# Altium footprint library Debug.PcbLib: 17 footprints (part 1 of 2)
Each footprint in its own frame and in the unit in brackets; x right, y up, seen from the top. Pads: shape width x height; smd on the part's side, far side on the other; paste and mask are expansions set on the pad; w line width, h text height; cw(c..) or ccw(c..) is an arc to the next point about the centre after c.
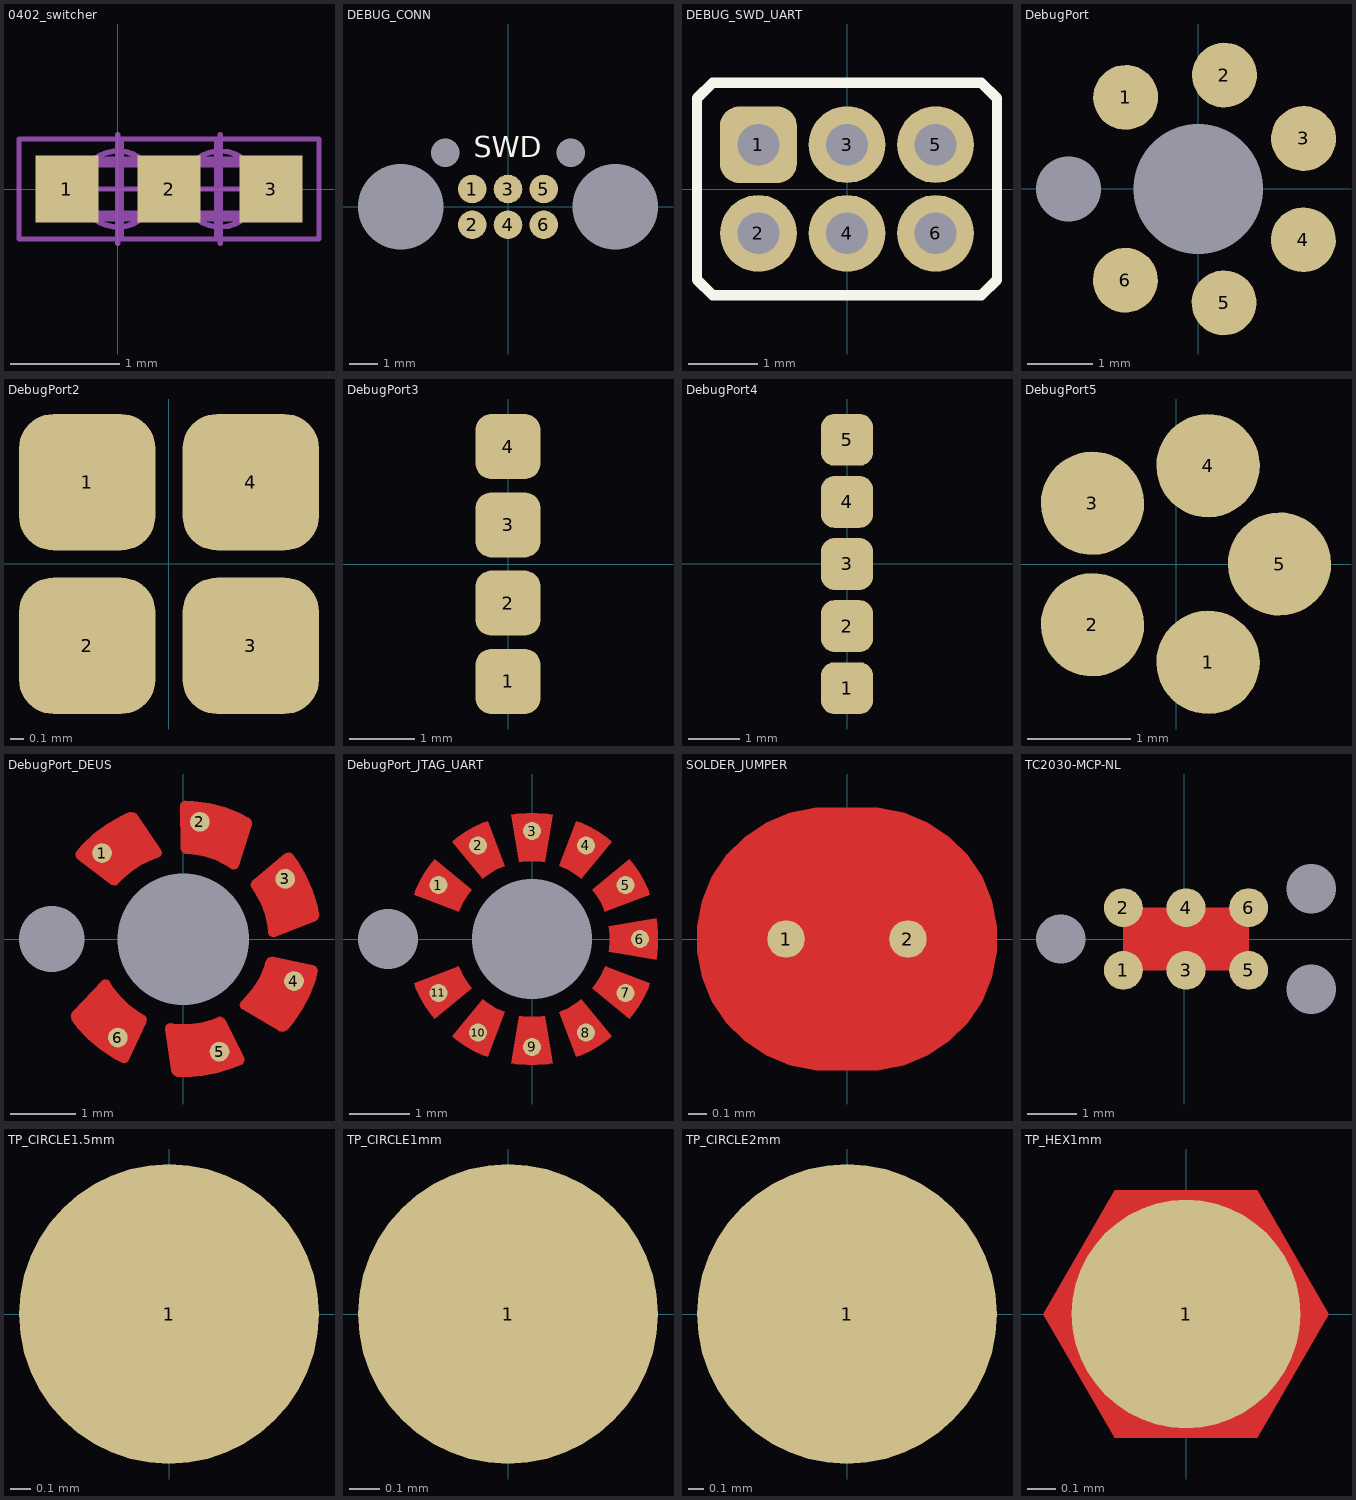
[diagram p0: the footprints below, top view; thin cyan lines are the x and y axes]

## 0402_switcher [mm] "Chip Resistor, EIA 0402, Metric 1005, Body 1.0x0.5mm, IPC Medium Density"
height 0.4
pads (3):
  rect 0.58x0.62 smd: 1(-0.47,0) 2(0.47,0) 3(1.41,0)
Mechanical 14:
  lines w0.1: -0.5,-0.25 0.5,-0.25 0.5,0.25 -0.5,0.25 -0.5,-0.25 ; 0.44,-0.25 0.44,0.25 1.44,0.25 1.44,-0.25 0.44,-0.25
Mechanical 15:
  circle w0.05: c0,0 r0.35
  circle w0.05: c0.94,0 r0.35
  lines w0.05: -0.5,0 0.5,0 ; 0,-0.5 0,0.5 ; 0.44,0 1.44,0 ; 0.94,-0.5 0.94,0.5 ; -0.91,-0.46 0.91,-0.46 0.91,0.46 -0.91,0.46 -0.91,-0.46 ; 0.03,-0.46 0.03,0.46 1.85,0.46 1.85,-0.46 0.03,-0.46
3D body "RESC1005X40N.stp": height 0.4, standoff 0, extent -0.525,-0.275 0.525,0.275

## DEBUG_CONN [mm] "Debug port with SWD and UART"
pads (10):
  round 1 smd: 1(-1.25,0.625) 2(-1.25,-0.625) 3(0,0.625) 4(0,-0.625) 5(1.25,0.625) 6(1.25,-0.625)
  round 0 hole 3: MH(-3.75,0) MH(3.75,0)
  round 0 hole 1: MH(-2.2,1.9) MH(2.2,1.9)
Top Overlay:
  text "SWD" at -1.2,1.5 h1.25

## DEBUG_SWD_UART [mm]
pads (6):
  rrect50% 1.1x1.1 hole 0.6: 1(-1.27,0.635)
  round 1.1 hole 0.6: 2(-1.27,-0.635) 3(0,0.635) 4(0,-0.635) 5(1.27,0.635) 6(1.27,-0.635)
Top Overlay:
  lines w0.15: -2.15,-1.3 -2.15,1.3 -1.925,1.525 1.925,1.525 2.15,1.3 2.15,-1.3 1.925,-1.525 -1.925,-1.525 -2.15,-1.3
Mechanical 14:
  lines w0.1: -2.15,-1.3 -2.15,1.3 -1.925,1.525 1.925,1.525 2.15,1.3 2.15,-1.3 1.925,-1.525 -1.925,-1.525 -2.15,-1.3
  text ".Designator" at -1.27,0.635 h0.5
  text "DEBUG" at -0.95,-0.825 h0.5

## DebugPort [mm] "Debug port with SWD and UART"
pads (8):
  round 1 smd mask+0.05: 1(-1.118,1.411) 2(0.405,1.754) 3(1.623,0.778) 4(1.621,-0.783) 5(0.399,-1.755) 6(-1.123,-1.407)
  round 0 hole 2: MH1(0,0)
  round 0 hole 1: MH2(-2,0)

## DebugPort2 [mm] "Debug port with SWD and UART"
pads (4):
  rrect50% 1x1 smd mask+0.075: 1(-0.6,0.6) 2(-0.6,-0.6) 3(0.6,-0.6) 4(0.6,0.6)

## DebugPort3 [mm] "Debug port with SWD and UART"
pads (4):
  rrect50% 1x1 smd mask+0.075: 1(0,-1.8) 2(0,-0.6) 3(0,0.6) 4(0,1.8)

## DebugPort4 [mm] "Debug port with SWD and UART"
pads (5):
  rrect50% 1x1 smd mask+0.075: 1(0,-2.4) 2(0,-1.2) 3(0,0) 4(0,1.2) 5(0,2.4)

## DebugPort5 [mm] "Debug port with SWD and UART"
pads (5):
  round 1 smd mask+0.05: 1(0.309,-0.951) 2(-0.809,-0.588) 3(-0.809,0.588) 4(0.309,0.951) 5(1,0)

## DebugPort_DEUS [mm] "Debug port with SWD and UART"
pads (8):
  round 0.3 smd mask+0.05: 1(-1.237,1.308) 2(0.251,1.782) 3(1.549,0.916) 4(1.683,-0.639) 5(0.55,-1.714) 6(-0.996,-1.499)
  round 0 hole 2: MH1(0,0)
  round 0 hole 1: MH2(-2,0)
Top Layer:
  region: 1.292,0.104 1.282,0.193 1.244,0.37 1.182,0.539 1.097,0.699 1.046,0.773 1.036,0.787 1.028,0.82 1.032,0.853 1.048,0.883 1.061,0.894 1.543,1.295 1.556,1.306 1.59,1.316 1.625,1.312 1.655,1.295 1.666,1.281 1.74,1.183 1.865,0.973 1.964,0.749 2.037,0.515 2.059,0.395 2.063,0.374 2.056,0.333 2.036,0.296 2.004,0.269 1.985,0.261 1.398,0.036 1.38,0.03 1.343,0.033 1.312,0.053 1.293,0.085
  region: 0.724,1.074 0.648,1.123 0.486,1.203 0.315,1.26 0.138,1.293 0.048,1.3 0.031,1.301 0,1.315 -0.024,1.339 -0.037,1.37 -0.037,1.387 -0.05,2.014 -0.05,2.031 -0.037,2.063 -0.013,2.088 0.02,2.101 0.037,2.101 0.16,2.098 0.402,2.064 0.639,2.002 0.867,1.914 0.975,1.856 0.994,1.846 1.022,1.815 1.038,1.776 1.039,1.735 1.033,1.715 0.843,1.115 0.837,1.098 0.812,1.071 0.776,1.059 0.74,1.064
  region: -0.388,1.236 -0.474,1.207 -0.637,1.13 -0.789,1.032 -0.925,0.914 -0.987,0.848 -0.998,0.835 -1.028,0.819 -1.062,0.816 -1.094,0.825 -1.108,0.836 -1.606,1.216 -1.619,1.227 -1.637,1.257 -1.641,1.292 -1.63,1.325 -1.619,1.339 -1.541,1.433 -1.363,1.601 -1.167,1.748 -0.955,1.871 -0.843,1.92 -0.824,1.928 -0.782,1.931 -0.742,1.919 -0.708,1.894 -0.696,1.877 -0.346,1.354 -0.336,1.339 -0.331,1.302 -0.344,1.267 -0.371,1.242
  region: -1.119,-0.654 -1.071,-0.73 -0.96,-0.873 -0.831,-0.999 -0.685,-1.105 -0.607,-1.151 -0.592,-1.159 -0.57,-1.185 -0.559,-1.217 -0.561,-1.25 -0.568,-1.266 -0.829,-1.836 -0.836,-1.852 -0.862,-1.875 -0.895,-1.887 -0.929,-1.885 -0.945,-1.877 -1.054,-1.821 -1.258,-1.685 -1.445,-1.527 -1.612,-1.348 -1.684,-1.249 -1.696,-1.232 -1.708,-1.192 -1.706,-1.15 -1.689,-1.112 -1.675,-1.097 -1.243,-0.639 -1.231,-0.625 -1.196,-0.613 -1.159,-0.617 -1.128,-0.638
  region: -0.187,-1.282 -0.097,-1.293 0.084,-1.295 0.263,-1.272 0.437,-1.225 0.521,-1.192 0.537,-1.185 0.571,-1.184 0.602,-1.196 0.628,-1.218 0.635,-1.234 0.919,-1.793 0.927,-1.808 0.929,-1.843 0.917,-1.876 0.894,-1.902 0.878,-1.909 0.767,-1.96 0.533,-2.034 0.293,-2.081 0.049,-2.1 -0.073,-2.095 -0.094,-2.095 -0.133,-2.079 -0.164,-2.051 -0.184,-2.014 -0.187,-1.993 -0.276,-1.371 -0.278,-1.352 -0.267,-1.317 -0.24,-1.291 -0.205,-1.279
  region: 0.886,-0.945 0.95,-0.882 1.065,-0.742 1.158,-0.588 1.23,-0.422 1.257,-0.336 1.261,-0.319 1.282,-0.292 1.311,-0.275 1.344,-0.269 1.361,-0.272 1.974,-0.399 1.991,-0.403 2.02,-0.423 2.039,-0.452 2.044,-0.487 2.04,-0.504 2.01,-0.623 1.923,-0.851 1.81,-1.069 1.673,-1.271 1.592,-1.364 1.579,-1.38 1.542,-1.4 1.501,-1.407 1.46,-1.399 1.442,-1.389 0.9,-1.07 0.884,-1.061 0.863,-1.03 0.86,-0.993 0.873,-0.958
Top Solder:
  circle w2.2: c0,0 r1.1
  circle w0.25: c-2,0 r0.5

## DebugPort_JTAG_UART [mm] "Debug port with SWD and UART"
pads (14):
  round 0.3 smd mask+0.05: 1(-1.559,0.9) 2(-0.9,1.559) 3(0,1.8) 4(0.9,1.559) 5(1.559,0.9) 6(1.8,0) 7(1.559,-0.9) 8(0.9,-1.559) 9(0,-1.8) 10(-0.9,-1.559) 11(-1.559,-0.9)
  round 0 hole 2: MH1(0,0) MH1(0,0)
  round 0 hole 1: MH2(-2.4,0)
Top Layer:
  region: -0.212,1.283 -0.159,1.29 -0.053,1.299 0.053,1.299 0.159,1.29 0.212,1.283 0.342,2.072 0.257,2.086 0.086,2.1 -0.086,2.1 -0.257,2.086 -0.342,2.072
  region: -1.217,0.458 -1.197,0.507 -1.151,0.603 -1.098,0.695 -1.038,0.783 -1.005,0.825 -1.623,1.332 -1.678,1.266 -1.776,1.124 -1.862,0.976 -1.935,0.82 -1.965,0.74
  region: -0.825,1.005 -0.783,1.038 -0.695,1.098 -0.603,1.151 -0.507,1.197 -0.458,1.217 -0.74,1.965 -0.82,1.935 -0.976,1.862 -1.124,1.776 -1.266,1.678 -1.332,1.623
  region: -0.825,-1.005 -0.783,-1.038 -0.695,-1.098 -0.603,-1.151 -0.507,-1.197 -0.458,-1.217 -0.74,-1.965 -0.82,-1.935 -0.976,-1.862 -1.124,-1.776 -1.266,-1.678 -1.332,-1.623
  region: -1.217,-0.458 -1.197,-0.507 -1.151,-0.603 -1.098,-0.695 -1.038,-0.783 -1.005,-0.825 -1.623,-1.332 -1.678,-1.266 -1.776,-1.124 -1.862,-0.976 -1.935,-0.82 -1.965,-0.74
  region: -0.212,-1.283 -0.159,-1.29 -0.053,-1.299 0.053,-1.299 0.159,-1.29 0.212,-1.283 0.342,-2.072 0.257,-2.086 0.086,-2.1 -0.086,-2.1 -0.257,-2.086 -0.342,-2.072
  region: 0.458,-1.217 0.507,-1.197 0.603,-1.151 0.695,-1.098 0.783,-1.038 0.825,-1.005 1.332,-1.623 1.266,-1.678 1.124,-1.776 0.976,-1.862 0.82,-1.935 0.74,-1.965
  region: 1.005,0.825 1.038,0.783 1.098,0.695 1.151,0.603 1.197,0.507 1.217,0.458 1.965,0.74 1.935,0.82 1.862,0.976 1.776,1.124 1.678,1.266 1.623,1.332
  region: 0.458,1.217 0.507,1.197 0.603,1.151 0.695,1.098 0.783,1.038 0.825,1.005 1.332,1.623 1.266,1.678 1.124,1.776 0.976,1.862 0.82,1.935 0.74,1.965
  region: 1.283,0.212 1.29,0.159 1.299,0.053 1.299,-0.053 1.29,-0.159 1.283,-0.212 2.072,-0.342 2.086,-0.257 2.1,-0.086 2.1,0.086 2.086,0.257 2.072,0.342
  region: 1.217,-0.458 1.197,-0.507 1.151,-0.603 1.098,-0.695 1.038,-0.783 1.005,-0.825 1.623,-1.332 1.678,-1.266 1.776,-1.124 1.862,-0.976 1.935,-0.82 1.965,-0.74

## SOLDER_JUMPER [mm]
pads (2):
  round 0.2 smd: 1(-0.325,0) 2(0.325,0)
Top Layer:
  region: 0.075,0.5 0.174,0.5 0.358,0.424 0.499,0.283 0.575,0.099 0.575,0 0.575,-0.099 0.499,-0.283 0.358,-0.424 0.174,-0.5 0.075,-0.5
  region: -0.075,0.5 -0.174,0.5 -0.358,0.424 -0.499,0.283 -0.575,0.099 -0.575,0 -0.575,-0.099 -0.499,-0.283 -0.358,-0.424 -0.174,-0.5 -0.075,-0.5
  pour cut-out: 0.1,0.7 0.169,0.7 0.304,0.673 0.432,0.62 0.546,0.544 0.644,0.446 0.72,0.332 0.773,0.204 0.8,0.069 0.8,0 0.8,-0.069 0.773,-0.204 0.72,-0.332 0.644,-0.446 0.546,-0.544 0.432,-0.62 0.304,-0.673 0.169,-0.7 0.1,-0.7 -0.1,-0.7 -0.169,-0.7 -0.304,-0.673 -0.432,-0.62 -0.546,-0.544 -0.644,-0.446 -0.72,-0.332 -0.773,-0.204 -0.8,-0.069 -0.8,0 -0.8,0.069 -0.773,0.204 -0.72,0.332 -0.644,0.446 -0.546,0.544 -0.432,0.62 -0.304,0.673 -0.169,0.7 -0.1,0.7

## TC2030-MCP-NL [mm] "TagConnect"
pads (9):
  round 0 hole 1: 0(-2.5,0) 0(2.58,-1.016) 0(2.58,1.016)
  round 0.787 smd: 1(-1.23,-0.635) 2(-1.23,0.635) 3(0.04,-0.635) 4(0.04,0.635) 5(1.31,-0.635) 6(1.31,0.635)
Top Layer:
  pour cut-out: -1.23,0.635 1.31,0.635 1.31,-0.635 -1.23,-0.635

## TP_CIRCLE1.5mm [mm]
pads (1):
  round 1.5 smd mask+0.05: 1(0,0)

## TP_CIRCLE1mm [mm]
pads (1):
  round 1 smd mask+0.05: 1(0,0)

## TP_CIRCLE2mm [mm]
pads (1):
  round 2 smd mask+0.05: 1(0,0)

## TP_HEX1mm [mm]
pads (1):
  round 0.8 smd: 1(0,0)
Top Layer:
  region: -0.25,0.433 -0.5,0 -0.25,-0.433 0.25,-0.433 0.5,0 0.25,0.433
Top Solder:
  region: -0.263,0.455 -0.525,0 -0.263,-0.455 0.263,-0.455 0.525,0 0.263,0.455